# Altium integrated library Linear Technology Power Management Battery Management.IntLib: 626 symbols (part 47 of 56)
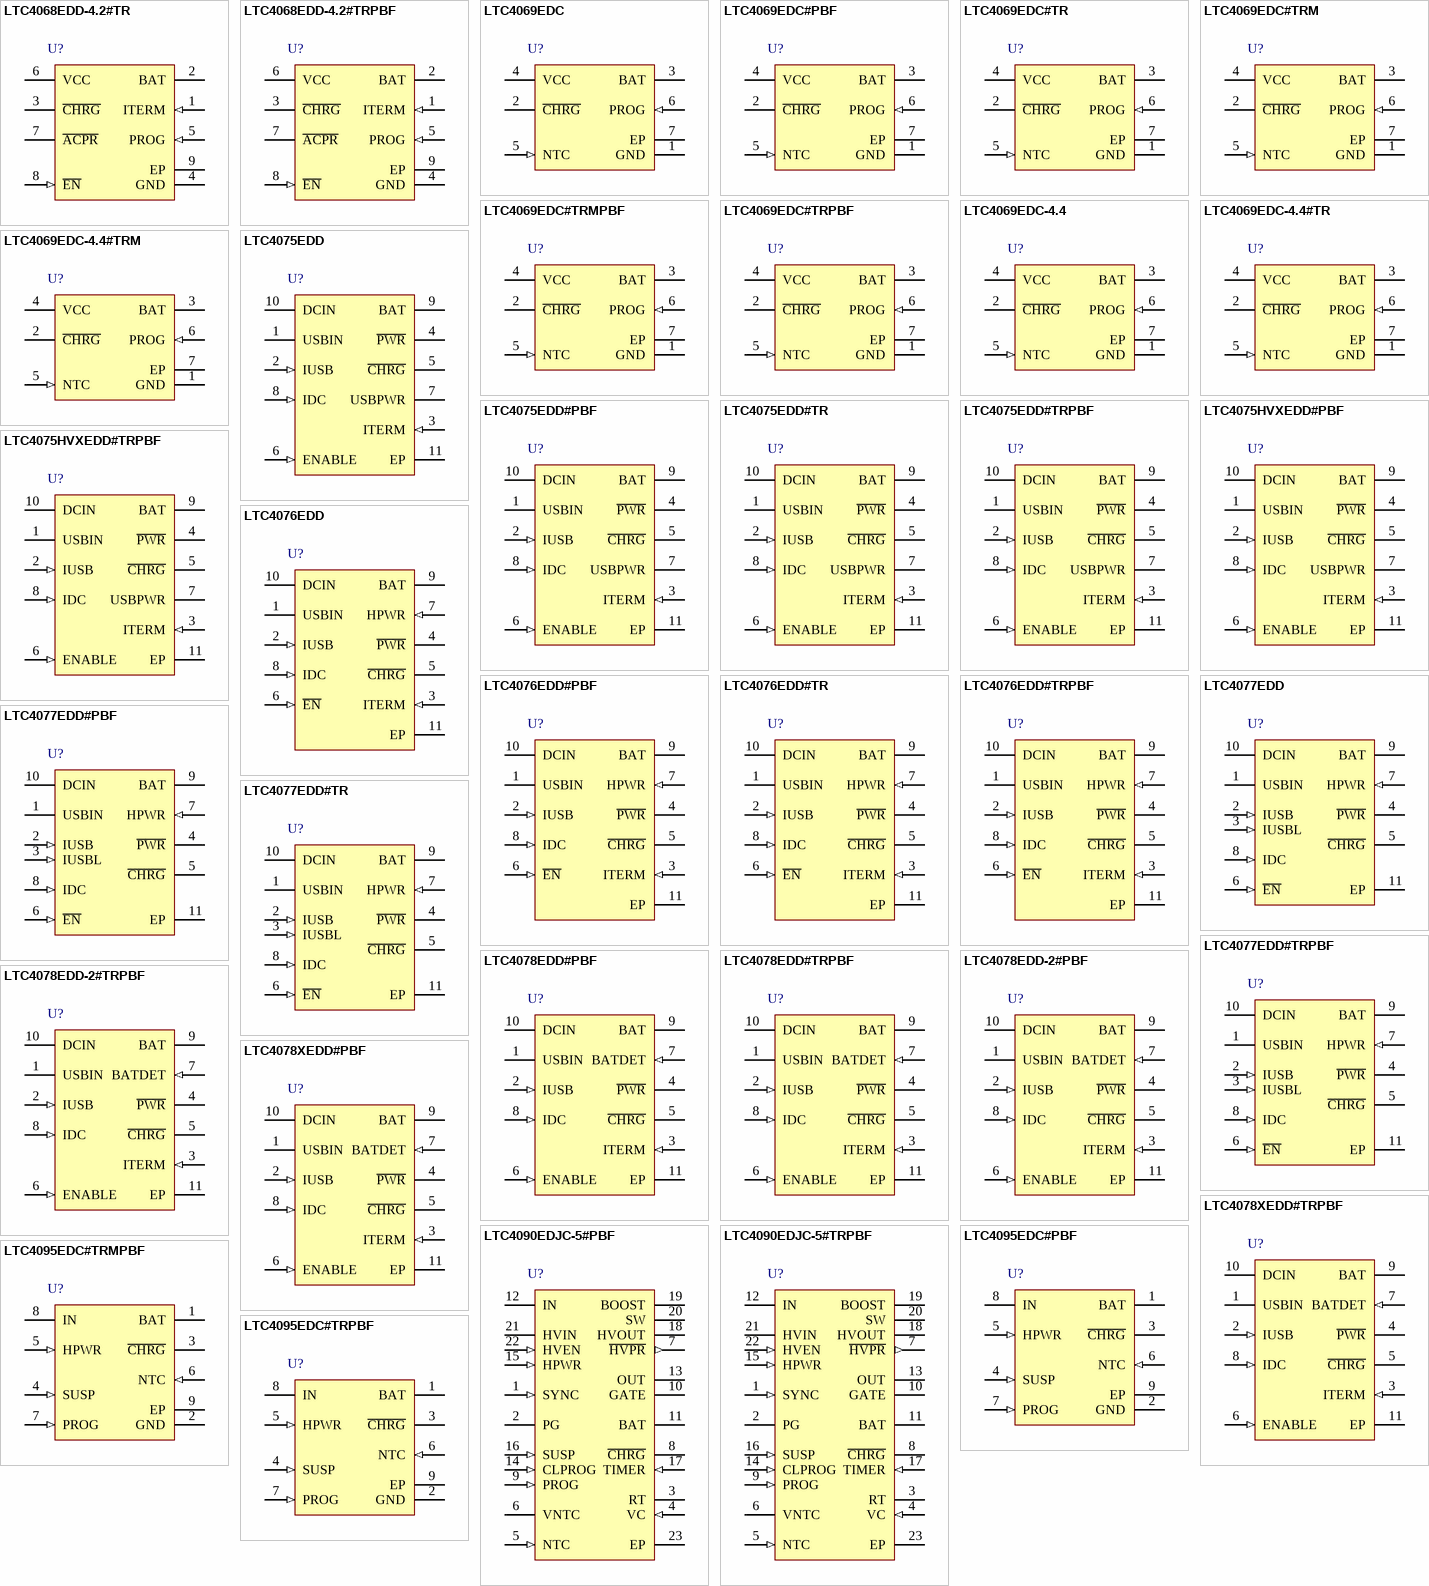
[diagram p68: symbols LTC4068EDD-4.2#TR to LTC4095EDC#TRPBF]

## LTC4095EDC#PBF
designator U?
Standalone USB Li-Ion / Polymer Battery Charger, 4.3 to 5.5 V Vin, 8-pin SON (DC8-8), -40 to 85 degC, Pb-Free; Manufacturer: Linear Technology; PartNumber: LTC4095EDC#PBF; Battery Chemistry: Li-Ion, Li-Polymer; Charge Termination: C/10; Float Voltage: 4.2 V; Max Charge Current(A): 0.95; Number of Cells: 1; Type of Charger: Linear; Vin Max(V): 5.5; Vin Min(V): 4.3; DatasheetVersion: Rev. A; PackageVersion: Rev. A, 06/2010; PackageReference: DC8-8; PackageDescription: 8-Pin Plastic DFN, Body 2 x 2 mm, Pitch 0.45 mm; RoHS: TRUE; Mounting Technology: Surface Mount; ComponentLink1Description: Manufacturer URL; ComponentLink1URL: http://www.linear.com/; ComponentLink2Description: Datasheet; ComponentLink2URL: http://cds.linear.com/docs/en/datasheet/4095fa.pdf; ComponentLink3Description: Package Specification; ComponentLink3URL: http://www.linear.com/docs/en/packaging/DFN_8_05-08-1719.pdf
footprint LT-DC8-8_V (SON, 8-Leads, Body 2x2mm, Pitch 0.45mm, Thermal Pad 1.37x0.64mm)
pins: 1 BAT (power) "Single Cell Li-Ion Battery Pin. Provides charge current to the battery and regulates final float voltage to 4.2V.", 2 GND (power) "Ground", 3 ~{CHRG} (hiz) "Open-Drain Charge Status Output. The C\H\R\G\ pin indicates the status of the battery charger. Four possible states are represented by C\H\R\G\: charging, not charging (i.e., the charge current is less than 1/10th of the (See Datasheet)", 4 SUSP (in) "Suspend Mode Input. A voltage greater than 1.2V on the SUSP pin puts the LTC4095 into suspend mode, disables the charger and resets the termination timer. A weak pull-down current is internally applied to this pin to ensure (See Datasheet)", 5 HPWR (in) "High Power Select Input. A voltage greater than 1.2V on the HPWR pin will set the charge current to 100% of its programmed value. A voltage less than 0.4V on the pin will set the charge current to 20% of its programmed value.(See Datasheet)", 6 NTC (in) "Input to the NTC Thermistor Monitoring Circuit. The NTC pin connects to a negative temperature coeffi cient thermistor which is typically co-packaged with the battery pack to determine if the battery is too hot or too cold (See Datasheet)", 7 PROG (in) "Charge Current Program and Charge Current Monitor Pin. Charge current is programmed by connecting a resistor from PROG to ground. When charging in constant-current mode, the PROG pin servos to 1V if the HPWR pin is pulled (See Datasheet)", 8 IN (power) "Input Supply Voltage. This pin provides power to the battery charger and should be bypassed with at least a 1uF capacitor. IN can range from 4.3V to 5.5V.", 9 EP (power) "Ground. The exposed package pad is ground and must be soldered to the PCB ground for proper functionality and for maximum heat transfer."

## LTC4095EDC#TRMPBF
designator U?
Standalone USB Li-Ion / Polymer Battery Charger, 4.3 to 5.5 V Vin, 8-pin SON (DC8-8), -40 to 85 degC, Pb-Free, Mini Tape and Reel; Manufacturer: Linear Technology; PartNumber: LTC4095EDC#TRMPBF; Battery Chemistry: Li-Ion, Li-Polymer; Charge Termination: C/10; Float Voltage: 4.2 V; Max Charge Current(A): 0.95; Number of Cells: 1; Type of Charger: Linear; Vin Max(V): 5.5; Vin Min(V): 4.3; DatasheetVersion: Rev. A; PackageVersion: Rev. A, 06/2010; PackageReference: DC8-8; PackageDescription: 8-Pin Plastic DFN, Body 2 x 2 mm, Pitch 0.45 mm; Supplier 1: Digi-Key; Supplier Part Number 1: LTC4095EDC#TRMPBFTR-ND; Supplier 2: Digi-Key; Supplier Part Number 2: LTC4095EDC#TRMPBFCT-ND; Supplier 3: Digi-Key; Supplier Part Number 3: LTC4095EDC#TRMPBFDKR-ND; Supplier 4: Newark; Supplier Part Number 4: 58M0947; Packing: Mini Tape and Reel; RoHS: TRUE; Mounting Technology: Surface Mount; ComponentLink1Description: Manufacturer URL; ComponentLink1URL: http://www.linear.com/; ComponentLink2Description: Datasheet; ComponentLink2URL: http://cds.linear.com/docs/en/datasheet/4095fa.pdf; ComponentLink3Description: Package Specification; ComponentLink3URL: http://www.linear.com/docs/en/packaging/DFN_8_05-08-1719.pdf
footprint LT-DC8-8_V (SON, 8-Leads, Body 2x2mm, Pitch 0.45mm, Thermal Pad 1.37x0.64mm)
pins: 1 BAT (power) "Single Cell Li-Ion Battery Pin. Provides charge current to the battery and regulates final float voltage to 4.2V.", 2 GND (power) "Ground", 3 ~{CHRG} (hiz) "Open-Drain Charge Status Output. The C\H\R\G\ pin indicates the status of the battery charger. Four possible states are represented by C\H\R\G\: charging, not charging (i.e., the charge current is less than 1/10th of the (See Datasheet)", 4 SUSP (in) "Suspend Mode Input. A voltage greater than 1.2V on the SUSP pin puts the LTC4095 into suspend mode, disables the charger and resets the termination timer. A weak pull-down current is internally applied to this pin to ensure (See Datasheet)", 5 HPWR (in) "High Power Select Input. A voltage greater than 1.2V on the HPWR pin will set the charge current to 100% of its programmed value. A voltage less than 0.4V on the pin will set the charge current to 20% of its programmed value.(See Datasheet)", 6 NTC (in) "Input to the NTC Thermistor Monitoring Circuit. The NTC pin connects to a negative temperature coeffi cient thermistor which is typically co-packaged with the battery pack to determine if the battery is too hot or too cold (See Datasheet)", 7 PROG (in) "Charge Current Program and Charge Current Monitor Pin. Charge current is programmed by connecting a resistor from PROG to ground. When charging in constant-current mode, the PROG pin servos to 1V if the HPWR pin is pulled (See Datasheet)", 8 IN (power) "Input Supply Voltage. This pin provides power to the battery charger and should be bypassed with at least a 1uF capacitor. IN can range from 4.3V to 5.5V.", 9 EP (power) "Ground. The exposed package pad is ground and must be soldered to the PCB ground for proper functionality and for maximum heat transfer."

## LTC4095EDC#TRPBF
designator U?
Standalone USB Li-Ion / Polymer Battery Charger, 4.3 to 5.5 V Vin, 8-pin SON (DC8-8), -40 to 85 degC, Pb-Free, Tape and Reel; Manufacturer: Linear Technology; PartNumber: LTC4095EDC#TRPBF; Battery Chemistry: Li-Ion, Li-Polymer; Charge Termination: C/10; Float Voltage: 4.2 V; Max Charge Current(A): 0.95; Number of Cells: 1; Type of Charger: Linear; Vin Max(V): 5.5; Vin Min(V): 4.3; DatasheetVersion: Rev. A; PackageVersion: Rev. A, 06/2010; PackageReference: DC8-8; PackageDescription: 8-Pin Plastic DFN, Body 2 x 2 mm, Pitch 0.45 mm; Supplier 1: Digi-Key; Supplier Part Number 1: LTC4095EDC#TRPBF-ND; Packing: Tape and Reel; RoHS: TRUE; Mounting Technology: Surface Mount; ComponentLink1Description: Manufacturer URL; ComponentLink1URL: http://www.linear.com/; ComponentLink2Description: Datasheet; ComponentLink2URL: http://cds.linear.com/docs/en/datasheet/4095fa.pdf; ComponentLink3Description: Package Specification; ComponentLink3URL: http://www.linear.com/docs/en/packaging/DFN_8_05-08-1719.pdf
footprint LT-DC8-8_V (SON, 8-Leads, Body 2x2mm, Pitch 0.45mm, Thermal Pad 1.37x0.64mm)
pins: 1 BAT (power) "Single Cell Li-Ion Battery Pin. Provides charge current to the battery and regulates final float voltage to 4.2V.", 2 GND (power) "Ground", 3 ~{CHRG} (hiz) "Open-Drain Charge Status Output. The C\H\R\G\ pin indicates the status of the battery charger. Four possible states are represented by C\H\R\G\: charging, not charging (i.e., the charge current is less than 1/10th of the (See Datasheet)", 4 SUSP (in) "Suspend Mode Input. A voltage greater than 1.2V on the SUSP pin puts the LTC4095 into suspend mode, disables the charger and resets the termination timer. A weak pull-down current is internally applied to this pin to ensure (See Datasheet)", 5 HPWR (in) "High Power Select Input. A voltage greater than 1.2V on the HPWR pin will set the charge current to 100% of its programmed value. A voltage less than 0.4V on the pin will set the charge current to 20% of its programmed value.(See Datasheet)", 6 NTC (in) "Input to the NTC Thermistor Monitoring Circuit. The NTC pin connects to a negative temperature coeffi cient thermistor which is typically co-packaged with the battery pack to determine if the battery is too hot or too cold (See Datasheet)", 7 PROG (in) "Charge Current Program and Charge Current Monitor Pin. Charge current is programmed by connecting a resistor from PROG to ground. When charging in constant-current mode, the PROG pin servos to 1V if the HPWR pin is pulled (See Datasheet)", 8 IN (power) "Input Supply Voltage. This pin provides power to the battery charger and should be bypassed with at least a 1uF capacitor. IN can range from 4.3V to 5.5V.", 9 EP (power) "Ground. The exposed package pad is ground and must be soldered to the PCB ground for proper functionality and for maximum heat transfer."

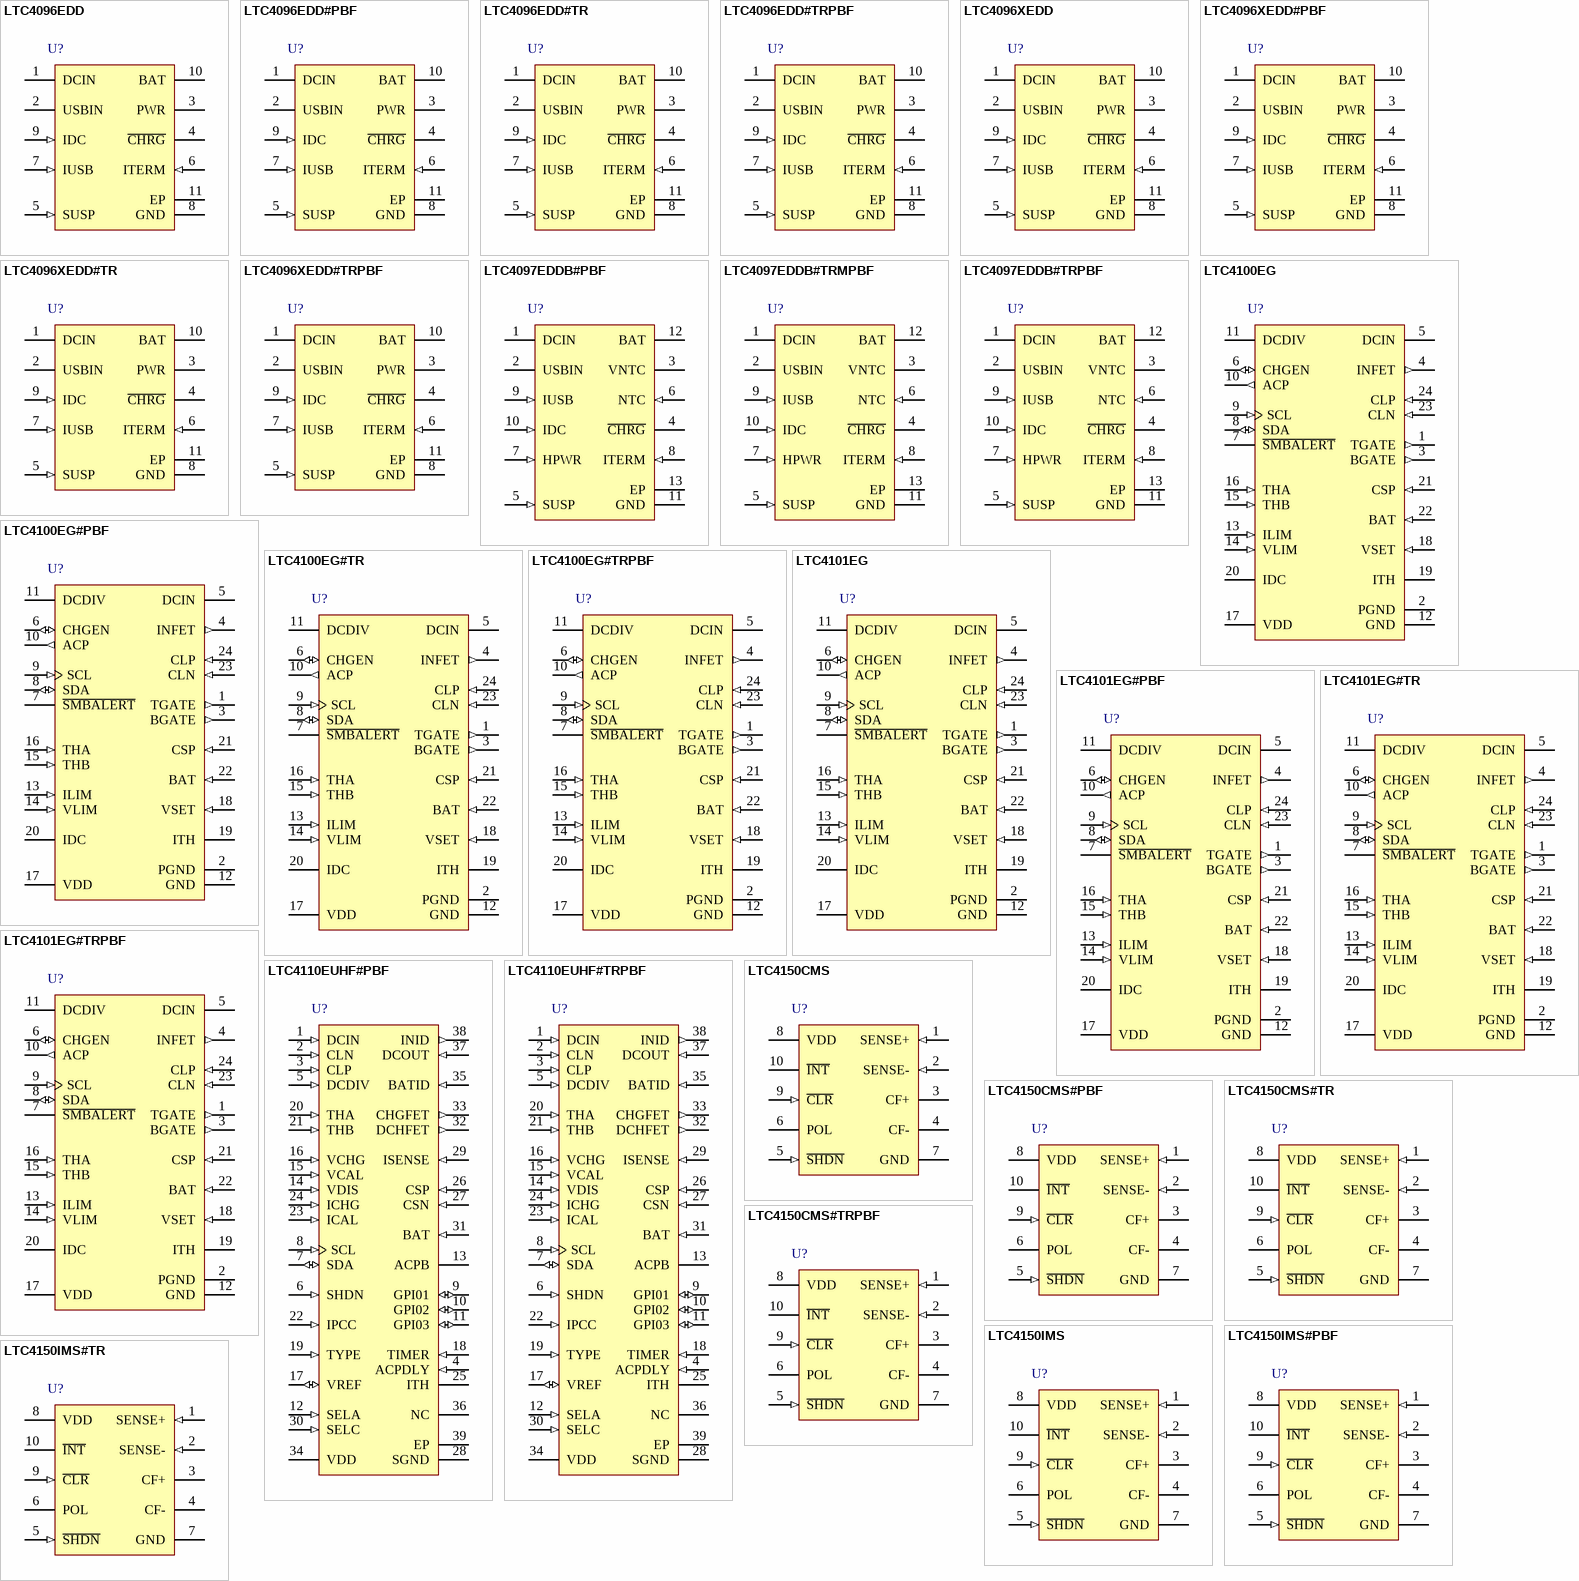
[diagram p19: symbols LTC4096EDD to LTC4150IMS#TR]

## LTC4096EDD
designator U?
Dual Input Standalone Li-Ion Battery Charger, 4.25 to 5.5 V Vin, 10-pin SON (DD-10), -40 to 85 degC; Manufacturer: Linear Technology; PartNumber: LTC4096EDD; Battery Chemistry: Li-Ion, Li-Polymer; Charge Termination: C/X; Float Voltage: 4.2 V; Max Charge Current(A): 1.2; Number of Cells: 1; Type of Charger: Linear; Vin Max(V): 5.5; Vin Min(V): 4.25; PackageReference: DD-10; PackageDescription: 10-Pin Plastic DFN, Body 3 x 3 mm, Pitch 0.5 mm; RoHS: FALSE; Mounting Technology: Surface Mount; Code_JEDEC: MO-229; ComponentLink1Description: Manufacturer URL; ComponentLink1URL: http://www.linear.com/; ComponentLink2Description: Datasheet; ComponentLink2URL: http://cds.linear.com/docs/en/datasheet/4096xf.pdf; ComponentLink3Description: Package Specification; ComponentLink3URL: http://cds.linear.com/docs/en/datasheet/1618fas.pdf
footprint LT-DD-10-05-08-1698_V (SON, 10-Leads, Body 3x3mm, Pitch 0.5mm, Thermal Pad 1.65x2.38mm)
pins: 1 DCIN (power) "Wall Adapter Input Supply Pin. Provides power to the battery charger. The maximum supply current is 1.2A. This pin should be bypassed with a 1uF capacitor.", 2 USBIN (power) "USB Input Supply Pin. Provides power to the battery charger. The maximum supply current is 1A. This pin should be bypassed with a 1uF capacitor.", 3 PWR (hiz) "Power Present Output. When the DCIN or USBIN pin voltage is sufficient to begin charging (i.e. when the DCIN or USBIN supply is greater than the undervoltage lockout thresholds and at least 100mV or 150mV, respectively, (See Datasheet)", 4 ~{CHRG} (hiz) "Open-Drain Charge Status Output. When the LTC4096 is charging, the C\H\R\G\ pin is pulled low by an internal N-channel MOSFET. When the charge cycle is completed, C\H\R\G\ becomes high impedance. This output is capable of (See Datasheet)", 5 SUSP (in) "Charge Enable Input. A logic low on this pin enables the charger. If left floating, an internal 3.4Mohm pull-down resistor defaults the LTC4096 to charge mode. Pull this pin high for shutdown.", 6 ITERM (in) "Charge Termination Current Threshold Program. The termination current threshold, ITERMINATE, is set by connecting a resistor, RITERM, to ground. ITERMINATE is set by the following formula:ITERMINATE=100V/RITERM,When the (See Datasheet)", 7 IUSB (in) "Charge Current Program for USB Power. The charge current is set by connecting a resistor, RIUSB, to ground. When charging in constant-current mode, this pin servos to 1V. The voltage on this pin can be used to measure the (See Datasheet)", 8 GND (power) "Ground.", 9 IDC (in) "Charge Current Program for Wall Adapter Power. The charge current is set by connecting a resistor, RIDC, to ground. When charging in constant-current mode, this pin servos to 1V. The voltage on this pin can be used to (See Datasheet)", 10 BAT (power) "Charger Output. This pin provides charge current to the battery and regulates the final float voltage to 4.2V.", 11 EP (power) "GND. The exposed backside of the package is ground and must be soldered to PC board ground for electrical connection and maximum heat transfer."

## LTC4096EDD#PBF
designator U?
Dual Input Standalone Li-Ion Battery Charger, 4.25 to 5.5 V Vin, 10-pin SON (DD-10), -40 to 85 degC, Pb-Free; Manufacturer: Linear Technology; PartNumber: LTC4096EDD#PBF; Battery Chemistry: Li-Ion, Li-Polymer; Charge Termination: C/X; Float Voltage: 4.2 V; Max Charge Current(A): 1.2; Number of Cells: 1; Type of Charger: Linear; Vin Max(V): 5.5; Vin Min(V): 4.25; PackageReference: DD-10; PackageDescription: 10-Pin Plastic DFN, Body 3 x 3 mm, Pitch 0.5 mm; Supplier 1: Digi-Key; Supplier Part Number 1: LTC4096EDD#PBF-ND; Supplier 2: Farnell; Supplier Part Number 2: 1648048; Supplier 3: Newark; Supplier Part Number 3: 58M0950; RoHS: TRUE; Mounting Technology: Surface Mount; Code_JEDEC: MO-229; ComponentLink1Description: Manufacturer URL; ComponentLink1URL: http://www.linear.com/; ComponentLink2Description: Datasheet; ComponentLink2URL: http://cds.linear.com/docs/en/datasheet/4096xf.pdf; ComponentLink3Description: Package Specification; ComponentLink3URL: http://cds.linear.com/docs/en/datasheet/1618fas.pdf
footprint LT-DD-10-05-08-1698_V (SON, 10-Leads, Body 3x3mm, Pitch 0.5mm, Thermal Pad 1.65x2.38mm)
pins: 1 DCIN (power) "Wall Adapter Input Supply Pin. Provides power to the battery charger. The maximum supply current is 1.2A. This pin should be bypassed with a 1uF capacitor.", 2 USBIN (power) "USB Input Supply Pin. Provides power to the battery charger. The maximum supply current is 1A. This pin should be bypassed with a 1uF capacitor.", 3 PWR (hiz) "Power Present Output. When the DCIN or USBIN pin voltage is sufficient to begin charging (i.e. when the DCIN or USBIN supply is greater than the undervoltage lockout thresholds and at least 100mV or 150mV, respectively, (See Datasheet)", 4 ~{CHRG} (hiz) "Open-Drain Charge Status Output. When the LTC4096 is charging, the C\H\R\G\ pin is pulled low by an internal N-channel MOSFET. When the charge cycle is completed, C\H\R\G\ becomes high impedance. This output is capable of (See Datasheet)", 5 SUSP (in) "Charge Enable Input. A logic low on this pin enables the charger. If left floating, an internal 3.4Mohm pull-down resistor defaults the LTC4096 to charge mode. Pull this pin high for shutdown.", 6 ITERM (in) "Charge Termination Current Threshold Program. The termination current threshold, ITERMINATE, is set by connecting a resistor, RITERM, to ground. ITERMINATE is set by the following formula:ITERMINATE=100V/RITERM,When the (See Datasheet)", 7 IUSB (in) "Charge Current Program for USB Power. The charge current is set by connecting a resistor, RIUSB, to ground. When charging in constant-current mode, this pin servos to 1V. The voltage on this pin can be used to measure the (See Datasheet)", 8 GND (power) "Ground.", 9 IDC (in) "Charge Current Program for Wall Adapter Power. The charge current is set by connecting a resistor, RIDC, to ground. When charging in constant-current mode, this pin servos to 1V. The voltage on this pin can be used to (See Datasheet)", 10 BAT (power) "Charger Output. This pin provides charge current to the battery and regulates the final float voltage to 4.2V.", 11 EP (power) "GND. The exposed backside of the package is ground and must be soldered to PC board ground for electrical connection and maximum heat transfer."

## LTC4096EDD#TR
designator U?
Dual Input Standalone Li-Ion Battery Charger, 4.25 to 5.5 V Vin, 10-pin SON (DD-10), -40 to 85 degC, Tape and Reel; Manufacturer: Linear Technology; PartNumber: LTC4096EDD#TR; Battery Chemistry: Li-Ion, Li-Polymer; Charge Termination: C/X; Float Voltage: 4.2 V; Max Charge Current(A): 1.2; Number of Cells: 1; Type of Charger: Linear; Vin Max(V): 5.5; Vin Min(V): 4.25; PackageReference: DD-10; PackageDescription: 10-Pin Plastic DFN, Body 3 x 3 mm, Pitch 0.5 mm; Packing: Tape and Reel; RoHS: FALSE; Mounting Technology: Surface Mount; Code_JEDEC: MO-229; ComponentLink1Description: Manufacturer URL; ComponentLink1URL: http://www.linear.com/; ComponentLink2Description: Datasheet; ComponentLink2URL: http://cds.linear.com/docs/en/datasheet/4096xf.pdf; ComponentLink3Description: Package Specification; ComponentLink3URL: http://cds.linear.com/docs/en/datasheet/1618fas.pdf
footprint LT-DD-10-05-08-1698_V (SON, 10-Leads, Body 3x3mm, Pitch 0.5mm, Thermal Pad 1.65x2.38mm)
pins: 1 DCIN (power) "Wall Adapter Input Supply Pin. Provides power to the battery charger. The maximum supply current is 1.2A. This pin should be bypassed with a 1uF capacitor.", 2 USBIN (power) "USB Input Supply Pin. Provides power to the battery charger. The maximum supply current is 1A. This pin should be bypassed with a 1uF capacitor.", 3 PWR (hiz) "Power Present Output. When the DCIN or USBIN pin voltage is sufficient to begin charging (i.e. when the DCIN or USBIN supply is greater than the undervoltage lockout thresholds and at least 100mV or 150mV, respectively, (See Datasheet)", 4 ~{CHRG} (hiz) "Open-Drain Charge Status Output. When the LTC4096 is charging, the C\H\R\G\ pin is pulled low by an internal N-channel MOSFET. When the charge cycle is completed, C\H\R\G\ becomes high impedance. This output is capable of (See Datasheet)", 5 SUSP (in) "Charge Enable Input. A logic low on this pin enables the charger. If left floating, an internal 3.4Mohm pull-down resistor defaults the LTC4096 to charge mode. Pull this pin high for shutdown.", 6 ITERM (in) "Charge Termination Current Threshold Program. The termination current threshold, ITERMINATE, is set by connecting a resistor, RITERM, to ground. ITERMINATE is set by the following formula:ITERMINATE=100V/RITERM,When the (See Datasheet)", 7 IUSB (in) "Charge Current Program for USB Power. The charge current is set by connecting a resistor, RIUSB, to ground. When charging in constant-current mode, this pin servos to 1V. The voltage on this pin can be used to measure the (See Datasheet)", 8 GND (power) "Ground.", 9 IDC (in) "Charge Current Program for Wall Adapter Power. The charge current is set by connecting a resistor, RIDC, to ground. When charging in constant-current mode, this pin servos to 1V. The voltage on this pin can be used to (See Datasheet)", 10 BAT (power) "Charger Output. This pin provides charge current to the battery and regulates the final float voltage to 4.2V.", 11 EP (power) "GND. The exposed backside of the package is ground and must be soldered to PC board ground for electrical connection and maximum heat transfer."

## LTC4096EDD#TRPBF
designator U?
Dual Input Standalone Li-Ion Battery Charger, 4.25 to 5.5 V Vin, 10-pin SON (DD-10), -40 to 85 degC, Pb-Free, Tape and Reel; Manufacturer: Linear Technology; PartNumber: LTC4096EDD#TRPBF; Battery Chemistry: Li-Ion, Li-Polymer; Charge Termination: C/X; Float Voltage: 4.2 V; Max Charge Current(A): 1.2; Number of Cells: 1; Type of Charger: Linear; Vin Max(V): 5.5; Vin Min(V): 4.25; PackageReference: DD-10; PackageDescription: 10-Pin Plastic DFN, Body 3 x 3 mm, Pitch 0.5 mm; Supplier 1: Digi-Key; Supplier Part Number 1: LTC4096EDD#TRPBF-ND; Packing: Tape and Reel; RoHS: TRUE; Mounting Technology: Surface Mount; Code_JEDEC: MO-229; ComponentLink1Description: Manufacturer URL; ComponentLink1URL: http://www.linear.com/; ComponentLink2Description: Datasheet; ComponentLink2URL: http://cds.linear.com/docs/en/datasheet/4096xf.pdf; ComponentLink3Description: Package Specification; ComponentLink3URL: http://cds.linear.com/docs/en/datasheet/1618fas.pdf
footprint LT-DD-10-05-08-1698_V (SON, 10-Leads, Body 3x3mm, Pitch 0.5mm, Thermal Pad 1.65x2.38mm)
pins: 1 DCIN (power) "Wall Adapter Input Supply Pin. Provides power to the battery charger. The maximum supply current is 1.2A. This pin should be bypassed with a 1uF capacitor.", 2 USBIN (power) "USB Input Supply Pin. Provides power to the battery charger. The maximum supply current is 1A. This pin should be bypassed with a 1uF capacitor.", 3 PWR (hiz) "Power Present Output. When the DCIN or USBIN pin voltage is sufficient to begin charging (i.e. when the DCIN or USBIN supply is greater than the undervoltage lockout thresholds and at least 100mV or 150mV, respectively, (See Datasheet)", 4 ~{CHRG} (hiz) "Open-Drain Charge Status Output. When the LTC4096 is charging, the C\H\R\G\ pin is pulled low by an internal N-channel MOSFET. When the charge cycle is completed, C\H\R\G\ becomes high impedance. This output is capable of (See Datasheet)", 5 SUSP (in) "Charge Enable Input. A logic low on this pin enables the charger. If left floating, an internal 3.4Mohm pull-down resistor defaults the LTC4096 to charge mode. Pull this pin high for shutdown.", 6 ITERM (in) "Charge Termination Current Threshold Program. The termination current threshold, ITERMINATE, is set by connecting a resistor, RITERM, to ground. ITERMINATE is set by the following formula:ITERMINATE=100V/RITERM,When the (See Datasheet)", 7 IUSB (in) "Charge Current Program for USB Power. The charge current is set by connecting a resistor, RIUSB, to ground. When charging in constant-current mode, this pin servos to 1V. The voltage on this pin can be used to measure the (See Datasheet)", 8 GND (power) "Ground.", 9 IDC (in) "Charge Current Program for Wall Adapter Power. The charge current is set by connecting a resistor, RIDC, to ground. When charging in constant-current mode, this pin servos to 1V. The voltage on this pin can be used to (See Datasheet)", 10 BAT (power) "Charger Output. This pin provides charge current to the battery and regulates the final float voltage to 4.2V.", 11 EP (power) "GND. The exposed backside of the package is ground and must be soldered to PC board ground for electrical connection and maximum heat transfer."

## LTC4096XEDD
designator U?
Dual Input Standalone Li-Ion Battery Charger, 4.25 to 5.5 V Vin, 10-pin SON (DD-10), -40 to 85 degC; Manufacturer: Linear Technology; PartNumber: LTC4096XEDD; Battery Chemistry: Li-Ion, Li-Polymer; Charge Termination: C/X; Float Voltage: 4.2 V; Max Charge Current(A): 1.2; Number of Cells: 1; Type of Charger: Linear; Vin Max(V): 5.5; Vin Min(V): 4.25; PackageReference: DD-10; PackageDescription: 10-Pin Plastic DFN, Body 3 x 3 mm, Pitch 0.5 mm; RoHS: FALSE; Mounting Technology: Surface Mount; Code_JEDEC: MO-229; ComponentLink1Description: Manufacturer URL; ComponentLink1URL: http://www.linear.com/; ComponentLink2Description: Datasheet; ComponentLink2URL: http://cds.linear.com/docs/en/datasheet/4096xf.pdf; ComponentLink3Description: Package Specification; ComponentLink3URL: http://cds.linear.com/docs/en/datasheet/1618fas.pdf
footprint LT-DD-10-05-08-1698_V (SON, 10-Leads, Body 3x3mm, Pitch 0.5mm, Thermal Pad 1.65x2.38mm)
pins: 1 DCIN (power) "Wall Adapter Input Supply Pin. Provides power to the battery charger. The maximum supply current is 1.2A. This pin should be bypassed with a 1uF capacitor.", 2 USBIN (power) "USB Input Supply Pin. Provides power to the battery charger. The maximum supply current is 1A. This pin should be bypassed with a 1uF capacitor.", 3 PWR (hiz) "Power Present Output. When the DCIN or USBIN pin voltage is sufficient to begin charging (i.e. when the DCIN or USBIN supply is greater than the undervoltage lockout thresholds and at least 100mV or 150mV, respectively, (See Datasheet)", 4 ~{CHRG} (hiz) "Open-Drain Charge Status Output. When the LTC4096 is charging, the C\H\R\G\ pin is pulled low by an internal N-channel MOSFET. When the charge cycle is completed, C\H\R\G\ becomes high impedance. This output is capable of (See Datasheet)", 5 SUSP (in) "Charge Enable Input. A logic low on this pin enables the charger. If left floating, an internal 3.4Mohm pull-down resistor defaults the LTC4096 to charge mode. Pull this pin high for shutdown.", 6 ITERM (in) "Charge Termination Current Threshold Program. The termination current threshold, ITERMINATE, is set by connecting a resistor, RITERM, to ground. ITERMINATE is set by the following formula:ITERMINATE=100V/RITERM,When the (See Datasheet)", 7 IUSB (in) "Charge Current Program for USB Power. The charge current is set by connecting a resistor, RIUSB, to ground. When charging in constant-current mode, this pin servos to 1V. The voltage on this pin can be used to measure the (See Datasheet)", 8 GND (power) "Ground.", 9 IDC (in) "Charge Current Program for Wall Adapter Power. The charge current is set by connecting a resistor, RIDC, to ground. When charging in constant-current mode, this pin servos to 1V. The voltage on this pin can be used to (See Datasheet)", 10 BAT (power) "Charger Output. This pin provides charge current to the battery and regulates the final float voltage to 4.2V.", 11 EP (power) "GND. The exposed backside of the package is ground and must be soldered to PC board ground for electrical connection and maximum heat transfer."

## LTC4096XEDD#PBF
designator U?
Dual Input Standalone Li-Ion Battery Charger, 4.25 to 5.5 V Vin, 10-pin SON (DD-10), -40 to 85 degC, Pb-Free; Manufacturer: Linear Technology; PartNumber: LTC4096XEDD#PBF; Battery Chemistry: Li-Ion, Li-Polymer; Charge Termination: C/X; Float Voltage: 4.2 V; Max Charge Current(A): 1.2; Number of Cells: 1; Type of Charger: Linear; Vin Max(V): 5.5; Vin Min(V): 4.25; PackageReference: DD-10; PackageDescription: 10-Pin Plastic DFN, Body 3 x 3 mm, Pitch 0.5 mm; Supplier 1: Digi-Key; Supplier Part Number 1: LTC4096XEDD#PBF-ND; RoHS: TRUE; Mounting Technology: Surface Mount; Code_JEDEC: MO-229; ComponentLink1Description: Manufacturer URL; ComponentLink1URL: http://www.linear.com/; ComponentLink2Description: Datasheet; ComponentLink2URL: http://cds.linear.com/docs/en/datasheet/4096xf.pdf; ComponentLink3Description: Package Specification; ComponentLink3URL: http://cds.linear.com/docs/en/datasheet/1618fas.pdf
footprint LT-DD-10-05-08-1698_V (SON, 10-Leads, Body 3x3mm, Pitch 0.5mm, Thermal Pad 1.65x2.38mm)
pins: 1 DCIN (power) "Wall Adapter Input Supply Pin. Provides power to the battery charger. The maximum supply current is 1.2A. This pin should be bypassed with a 1uF capacitor.", 2 USBIN (power) "USB Input Supply Pin. Provides power to the battery charger. The maximum supply current is 1A. This pin should be bypassed with a 1uF capacitor.", 3 PWR (hiz) "Power Present Output. When the DCIN or USBIN pin voltage is sufficient to begin charging (i.e. when the DCIN or USBIN supply is greater than the undervoltage lockout thresholds and at least 100mV or 150mV, respectively, (See Datasheet)", 4 ~{CHRG} (hiz) "Open-Drain Charge Status Output. When the LTC4096 is charging, the C\H\R\G\ pin is pulled low by an internal N-channel MOSFET. When the charge cycle is completed, C\H\R\G\ becomes high impedance. This output is capable of (See Datasheet)", 5 SUSP (in) "Charge Enable Input. A logic low on this pin enables the charger. If left floating, an internal 3.4Mohm pull-down resistor defaults the LTC4096 to charge mode. Pull this pin high for shutdown.", 6 ITERM (in) "Charge Termination Current Threshold Program. The termination current threshold, ITERMINATE, is set by connecting a resistor, RITERM, to ground. ITERMINATE is set by the following formula:ITERMINATE=100V/RITERM,When the (See Datasheet)", 7 IUSB (in) "Charge Current Program for USB Power. The charge current is set by connecting a resistor, RIUSB, to ground. When charging in constant-current mode, this pin servos to 1V. The voltage on this pin can be used to measure the (See Datasheet)", 8 GND (power) "Ground.", 9 IDC (in) "Charge Current Program for Wall Adapter Power. The charge current is set by connecting a resistor, RIDC, to ground. When charging in constant-current mode, this pin servos to 1V. The voltage on this pin can be used to (See Datasheet)", 10 BAT (power) "Charger Output. This pin provides charge current to the battery and regulates the final float voltage to 4.2V.", 11 EP (power) "GND. The exposed backside of the package is ground and must be soldered to PC board ground for electrical connection and maximum heat transfer."

## LTC4096XEDD#TR
designator U?
Dual Input Standalone Li-Ion Battery Charger, 4.25 to 5.5 V Vin, 10-pin SON (DD-10), -40 to 85 degC, Tape and Reel; Manufacturer: Linear Technology; PartNumber: LTC4096XEDD#TR; Battery Chemistry: Li-Ion, Li-Polymer; Charge Termination: C/X; Float Voltage: 4.2 V; Max Charge Current(A): 1.2; Number of Cells: 1; Type of Charger: Linear; Vin Max(V): 5.5; Vin Min(V): 4.25; PackageReference: DD-10; PackageDescription: 10-Pin Plastic DFN, Body 3 x 3 mm, Pitch 0.5 mm; Packing: Tape and Reel; RoHS: FALSE; Mounting Technology: Surface Mount; Code_JEDEC: MO-229; ComponentLink1Description: Manufacturer URL; ComponentLink1URL: http://www.linear.com/; ComponentLink2Description: Datasheet; ComponentLink2URL: http://cds.linear.com/docs/en/datasheet/4096xf.pdf; ComponentLink3Description: Package Specification; ComponentLink3URL: http://cds.linear.com/docs/en/datasheet/1618fas.pdf
footprint LT-DD-10-05-08-1698_V (SON, 10-Leads, Body 3x3mm, Pitch 0.5mm, Thermal Pad 1.65x2.38mm)
pins: 1 DCIN (power) "Wall Adapter Input Supply Pin. Provides power to the battery charger. The maximum supply current is 1.2A. This pin should be bypassed with a 1uF capacitor.", 2 USBIN (power) "USB Input Supply Pin. Provides power to the battery charger. The maximum supply current is 1A. This pin should be bypassed with a 1uF capacitor.", 3 PWR (hiz) "Power Present Output. When the DCIN or USBIN pin voltage is sufficient to begin charging (i.e. when the DCIN or USBIN supply is greater than the undervoltage lockout thresholds and at least 100mV or 150mV, respectively, (See Datasheet)", 4 ~{CHRG} (hiz) "Open-Drain Charge Status Output. When the LTC4096 is charging, the C\H\R\G\ pin is pulled low by an internal N-channel MOSFET. When the charge cycle is completed, C\H\R\G\ becomes high impedance. This output is capable of (See Datasheet)", 5 SUSP (in) "Charge Enable Input. A logic low on this pin enables the charger. If left floating, an internal 3.4Mohm pull-down resistor defaults the LTC4096 to charge mode. Pull this pin high for shutdown.", 6 ITERM (in) "Charge Termination Current Threshold Program. The termination current threshold, ITERMINATE, is set by connecting a resistor, RITERM, to ground. ITERMINATE is set by the following formula:ITERMINATE=100V/RITERM,When the (See Datasheet)", 7 IUSB (in) "Charge Current Program for USB Power. The charge current is set by connecting a resistor, RIUSB, to ground. When charging in constant-current mode, this pin servos to 1V. The voltage on this pin can be used to measure the (See Datasheet)", 8 GND (power) "Ground.", 9 IDC (in) "Charge Current Program for Wall Adapter Power. The charge current is set by connecting a resistor, RIDC, to ground. When charging in constant-current mode, this pin servos to 1V. The voltage on this pin can be used to (See Datasheet)", 10 BAT (power) "Charger Output. This pin provides charge current to the battery and regulates the final float voltage to 4.2V.", 11 EP (power) "GND. The exposed backside of the package is ground and must be soldered to PC board ground for electrical connection and maximum heat transfer."

## LTC4096XEDD#TRPBF
designator U?
Dual Input Standalone Li-Ion Battery Charger, 4.25 to 5.5 V Vin, 10-pin SON (DD-10), -40 to 85 degC, Pb-Free, Tape and Reel; Manufacturer: Linear Technology; PartNumber: LTC4096XEDD#TRPBF; Battery Chemistry: Li-Ion, Li-Polymer; Charge Termination: C/X; Float Voltage: 4.2 V; Max Charge Current(A): 1.2; Number of Cells: 1; Type of Charger: Linear; Vin Max(V): 5.5; Vin Min(V): 4.25; PackageReference: DD-10; PackageDescription: 10-Pin Plastic DFN, Body 3 x 3 mm, Pitch 0.5 mm; Supplier 1: Digi-Key; Supplier Part Number 1: LTC4096XEDD#TRPBF-ND; Packing: Tape and Reel; RoHS: TRUE; Mounting Technology: Surface Mount; Code_JEDEC: MO-229; ComponentLink1Description: Manufacturer URL; ComponentLink1URL: http://www.linear.com/; ComponentLink2Description: Datasheet; ComponentLink2URL: http://cds.linear.com/docs/en/datasheet/4096xf.pdf; ComponentLink3Description: Package Specification; ComponentLink3URL: http://cds.linear.com/docs/en/datasheet/1618fas.pdf
footprint LT-DD-10-05-08-1698_V (SON, 10-Leads, Body 3x3mm, Pitch 0.5mm, Thermal Pad 1.65x2.38mm)
pins: 1 DCIN (power) "Wall Adapter Input Supply Pin. Provides power to the battery charger. The maximum supply current is 1.2A. This pin should be bypassed with a 1uF capacitor.", 2 USBIN (power) "USB Input Supply Pin. Provides power to the battery charger. The maximum supply current is 1A. This pin should be bypassed with a 1uF capacitor.", 3 PWR (hiz) "Power Present Output. When the DCIN or USBIN pin voltage is sufficient to begin charging (i.e. when the DCIN or USBIN supply is greater than the undervoltage lockout thresholds and at least 100mV or 150mV, respectively, (See Datasheet)", 4 ~{CHRG} (hiz) "Open-Drain Charge Status Output. When the LTC4096 is charging, the C\H\R\G\ pin is pulled low by an internal N-channel MOSFET. When the charge cycle is completed, C\H\R\G\ becomes high impedance. This output is capable of (See Datasheet)", 5 SUSP (in) "Charge Enable Input. A logic low on this pin enables the charger. If left floating, an internal 3.4Mohm pull-down resistor defaults the LTC4096 to charge mode. Pull this pin high for shutdown.", 6 ITERM (in) "Charge Termination Current Threshold Program. The termination current threshold, ITERMINATE, is set by connecting a resistor, RITERM, to ground. ITERMINATE is set by the following formula:ITERMINATE=100V/RITERM,When the (See Datasheet)", 7 IUSB (in) "Charge Current Program for USB Power. The charge current is set by connecting a resistor, RIUSB, to ground. When charging in constant-current mode, this pin servos to 1V. The voltage on this pin can be used to measure the (See Datasheet)", 8 GND (power) "Ground.", 9 IDC (in) "Charge Current Program for Wall Adapter Power. The charge current is set by connecting a resistor, RIDC, to ground. When charging in constant-current mode, this pin servos to 1V. The voltage on this pin can be used to (See Datasheet)", 10 BAT (power) "Charger Output. This pin provides charge current to the battery and regulates the final float voltage to 4.2V.", 11 EP (power) "GND. The exposed backside of the package is ground and must be soldered to PC board ground for electrical connection and maximum heat transfer."

## LTC4097EDDB#PBF
designator U?
USB / Wall Adapter Standalone Li-Ion / Polymer Battery Charger, 4.25 to 5.5 V Vin, 12-pin SON (DDB-12), -40 to 85 degC, Pb-Free; Manufacturer: Linear Technology; PartNumber: LTC4097EDDB#PBF; Battery Chemistry: Li-Ion, Li-Polymer; Charge Termination: C/x; Float Voltage: 4.2 V; Max Charge Current(A): 1.2; Number of Cells: 1; Type of Charger: Linear; Vin Max(V): 5.5; Vin Min(V): 4.25; PackageVersion: Rev. Ø, 06/2010; PackageReference: DDB-12; PackageDescription: 12-Pin Plastic DFN, Body 3 x 2 mm, Pitch 0.45 mm; RoHS: TRUE; Mounting Technology: Surface Mount; ComponentLink1Description: Manufacturer URL; ComponentLink1URL: http://www.linear.com/; ComponentLink2Description: Datasheet; ComponentLink2URL: http://cds.linear.com/docs/en/datasheet/4097f.pdf; ComponentLink3Description: Package Specification; ComponentLink3URL: http://cds.linear.com/docs/en/packaging/DFN_12_05-08-1723.pdf
footprint LT-DDB-12_V (SON, 12-Leads, Body 3x2mm, Pitch 0.45mm, Thermal Pad 2.39x0.64mm)
pins: 1 DCIN (power) "Wall Adapter Input Supply Pin. Provides power to the battery charger. The maximum supply current is 1.2A. This pin should be bypassed with a 1uF capacitor.", 2 USBIN (power) "USB Input Supply Pin. Provides power to the battery charger. The maximum supply current is 1A. This pin should be bypassed with a 1uF capacitor.", 3 VNTC "Output Bias Voltage for NTC. A resistor from this pin to the NTC pin sets up the bias for an NTC thermistor. When the DCIN or USBIN pin voltage is suffi cient to begin charging (i.e. when the DCIN or USBIN supply is greater (See Datasheet)", 4 ~{CHRG} (hiz) "Open-Drain Charge Status Output. When the LTC4097 is charging, the C\H\R\G\ pin is pulled low by an internal N-channel MOSFET. When the charge cycle is completed, C\H\R\G\ becomes high impedance. This output can sink up to (See Datasheet)", 5 SUSP (in) "Charge Enable Input. A logic low on this pin enables the charger. If left floating, an internal 3.4Mohm pull-down resistor defaults the LTC4097 to charge mode. Pull this pin high for shutdown.", 6 NTC (in) "Input to the NTC (Negative Temperature Coefficient) Thermistor Temperature Monitoring Circuit. For normal operation, connect a thermistor from the NTC pin to ground and a resistor of equal value from the NTC pin to VNTC. (See Datasheet)", 7 HPWR (in) "HPWR Enable Input. Used to control the amount of current drawn from the USB port. A logic high on the HPWR pin sets the charge current to 100% of the current programmed by the IUSB pin. A logic low on the HPWR pin sets the (See Datasheet)", 8 ITERM (in) "Charge Termination Current Threshold Program. The termination current threshold, ITERMINATE, is set by connecting a resistor, RITERM, to ground. ITERMINATE is set by the following formula:ITERMINATE=100V/RITERM,When the (See Datasheet)", 9 IUSB (in) "Charge Current Program for USB Power. The charge current is set by connecting a resistor, RIUSB, to ground. When charging in constant current mode, this pin servos to 1V. The voltage on this pin can be used to measure the (See Datasheet)", 10 IDC (in) "Charge Current Program for Wall Adapter Power. The charge current is set by connecting a resistor, RIDC, to ground. When charging in constant current mode, this pin servos to 1V. The voltage on this pin can be used to (See Datasheet)", 11 GND (power) "Ground.", 12 BAT (power) "Charger Output. This pin provides charge current to the battery and regulates the final float voltage to 4.2V.", 13 EP (power) "Ground. The exposed backside of the package is ground and must be soldered to the PC board ground for electrical connection and maximum heat transfer."

## LTC4097EDDB#TRMPBF
designator U?
USB / Wall Adapter Standalone Li-Ion / Polymer Battery Charger, 4.25 to 5.5 V Vin, 12-pin SON (DDB-12), -40 to 85 degC, Pb-Free, Mini Tape and Reel; Manufacturer: Linear Technology; PartNumber: LTC4097EDDB#TRMPBF; Battery Chemistry: Li-Ion, Li-Polymer; Charge Termination: C/x; Float Voltage: 4.2 V; Max Charge Current(A): 1.2; Number of Cells: 1; Type of Charger: Linear; Vin Max(V): 5.5; Vin Min(V): 4.25; PackageVersion: Rev. Ø, 06/2010; PackageReference: DDB-12; PackageDescription: 12-Pin Plastic DFN, Body 3 x 2 mm, Pitch 0.45 mm; Supplier 1: Digi-Key; Supplier Part Number 1: LTC4097EDDB#TRMPBFTR-ND; Supplier 2: Digi-Key; Supplier Part Number 2: LTC4097EDDB#TRMPBFCT-ND; Supplier 3: Digi-Key; Supplier Part Number 3: LTC4097EDDB#TRMPBFDKR-ND; Supplier 4: Newark; Supplier Part Number 4: 58M0957; Packing: Mini Tape and Reel; RoHS: TRUE; Mounting Technology: Surface Mount; ComponentLink1Description: Manufacturer URL; ComponentLink1URL: http://www.linear.com/; ComponentLink2Description: Datasheet; ComponentLink2URL: http://cds.linear.com/docs/en/datasheet/4097f.pdf; ComponentLink3Description: Package Specification; ComponentLink3URL: http://cds.linear.com/docs/en/packaging/DFN_12_05-08-1723.pdf
footprint LT-DDB-12_V (SON, 12-Leads, Body 3x2mm, Pitch 0.45mm, Thermal Pad 2.39x0.64mm)
pins: 1 DCIN (power) "Wall Adapter Input Supply Pin. Provides power to the battery charger. The maximum supply current is 1.2A. This pin should be bypassed with a 1uF capacitor.", 2 USBIN (power) "USB Input Supply Pin. Provides power to the battery charger. The maximum supply current is 1A. This pin should be bypassed with a 1uF capacitor.", 3 VNTC "Output Bias Voltage for NTC. A resistor from this pin to the NTC pin sets up the bias for an NTC thermistor. When the DCIN or USBIN pin voltage is suffi cient to begin charging (i.e. when the DCIN or USBIN supply is greater (See Datasheet)", 4 ~{CHRG} (hiz) "Open-Drain Charge Status Output. When the LTC4097 is charging, the C\H\R\G\ pin is pulled low by an internal N-channel MOSFET. When the charge cycle is completed, C\H\R\G\ becomes high impedance. This output can sink up to (See Datasheet)", 5 SUSP (in) "Charge Enable Input. A logic low on this pin enables the charger. If left floating, an internal 3.4Mohm pull-down resistor defaults the LTC4097 to charge mode. Pull this pin high for shutdown.", 6 NTC (in) "Input to the NTC (Negative Temperature Coefficient) Thermistor Temperature Monitoring Circuit. For normal operation, connect a thermistor from the NTC pin to ground and a resistor of equal value from the NTC pin to VNTC. (See Datasheet)", 7 HPWR (in) "HPWR Enable Input. Used to control the amount of current drawn from the USB port. A logic high on the HPWR pin sets the charge current to 100% of the current programmed by the IUSB pin. A logic low on the HPWR pin sets the (See Datasheet)", 8 ITERM (in) "Charge Termination Current Threshold Program. The termination current threshold, ITERMINATE, is set by connecting a resistor, RITERM, to ground. ITERMINATE is set by the following formula:ITERMINATE=100V/RITERM,When the (See Datasheet)", 9 IUSB (in) "Charge Current Program for USB Power. The charge current is set by connecting a resistor, RIUSB, to ground. When charging in constant current mode, this pin servos to 1V. The voltage on this pin can be used to measure the (See Datasheet)", 10 IDC (in) "Charge Current Program for Wall Adapter Power. The charge current is set by connecting a resistor, RIDC, to ground. When charging in constant current mode, this pin servos to 1V. The voltage on this pin can be used to (See Datasheet)", 11 GND (power) "Ground.", 12 BAT (power) "Charger Output. This pin provides charge current to the battery and regulates the final float voltage to 4.2V.", 13 EP (power) "Ground. The exposed backside of the package is ground and must be soldered to the PC board ground for electrical connection and maximum heat transfer."

## LTC4097EDDB#TRPBF
designator U?
USB / Wall Adapter Standalone Li-Ion / Polymer Battery Charger, 4.25 to 5.5 V Vin, 12-pin SON (DDB-12), -40 to 85 degC, Pb-Free, Tape and Reel; Manufacturer: Linear Technology; PartNumber: LTC4097EDDB#TRPBF; Battery Chemistry: Li-Ion, Li-Polymer; Charge Termination: C/x; Float Voltage: 4.2 V; Max Charge Current(A): 1.2; Number of Cells: 1; Type of Charger: Linear; Vin Max(V): 5.5; Vin Min(V): 4.25; PackageVersion: Rev. Ø, 06/2010; PackageReference: DDB-12; PackageDescription: 12-Pin Plastic DFN, Body 3 x 2 mm, Pitch 0.45 mm; Supplier 1: Digi-Key; Supplier Part Number 1: LTC4097EDDB#TRPBF-ND; Packing: Tape and Reel; RoHS: TRUE; Mounting Technology: Surface Mount; ComponentLink1Description: Manufacturer URL; ComponentLink1URL: http://www.linear.com/; ComponentLink2Description: Datasheet; ComponentLink2URL: http://cds.linear.com/docs/en/datasheet/4097f.pdf; ComponentLink3Description: Package Specification; ComponentLink3URL: http://cds.linear.com/docs/en/packaging/DFN_12_05-08-1723.pdf
footprint LT-DDB-12_V (SON, 12-Leads, Body 3x2mm, Pitch 0.45mm, Thermal Pad 2.39x0.64mm)
pins: 1 DCIN (power) "Wall Adapter Input Supply Pin. Provides power to the battery charger. The maximum supply current is 1.2A. This pin should be bypassed with a 1uF capacitor.", 2 USBIN (power) "USB Input Supply Pin. Provides power to the battery charger. The maximum supply current is 1A. This pin should be bypassed with a 1uF capacitor.", 3 VNTC "Output Bias Voltage for NTC. A resistor from this pin to the NTC pin sets up the bias for an NTC thermistor. When the DCIN or USBIN pin voltage is suffi cient to begin charging (i.e. when the DCIN or USBIN supply is greater (See Datasheet)", 4 ~{CHRG} (hiz) "Open-Drain Charge Status Output. When the LTC4097 is charging, the C\H\R\G\ pin is pulled low by an internal N-channel MOSFET. When the charge cycle is completed, C\H\R\G\ becomes high impedance. This output can sink up to (See Datasheet)", 5 SUSP (in) "Charge Enable Input. A logic low on this pin enables the charger. If left floating, an internal 3.4Mohm pull-down resistor defaults the LTC4097 to charge mode. Pull this pin high for shutdown.", 6 NTC (in) "Input to the NTC (Negative Temperature Coefficient) Thermistor Temperature Monitoring Circuit. For normal operation, connect a thermistor from the NTC pin to ground and a resistor of equal value from the NTC pin to VNTC. (See Datasheet)", 7 HPWR (in) "HPWR Enable Input. Used to control the amount of current drawn from the USB port. A logic high on the HPWR pin sets the charge current to 100% of the current programmed by the IUSB pin. A logic low on the HPWR pin sets the (See Datasheet)", 8 ITERM (in) "Charge Termination Current Threshold Program. The termination current threshold, ITERMINATE, is set by connecting a resistor, RITERM, to ground. ITERMINATE is set by the following formula:ITERMINATE=100V/RITERM,When the (See Datasheet)", 9 IUSB (in) "Charge Current Program for USB Power. The charge current is set by connecting a resistor, RIUSB, to ground. When charging in constant current mode, this pin servos to 1V. The voltage on this pin can be used to measure the (See Datasheet)", 10 IDC (in) "Charge Current Program for Wall Adapter Power. The charge current is set by connecting a resistor, RIDC, to ground. When charging in constant current mode, this pin servos to 1V. The voltage on this pin can be used to (See Datasheet)", 11 GND (power) "Ground.", 12 BAT (power) "Charger Output. This pin provides charge current to the battery and regulates the final float voltage to 4.2V.", 13 EP (power) "Ground. The exposed backside of the package is ground and must be soldered to the PC board ground for electrical connection and maximum heat transfer."